# Altium footprint library L33.PcbLib: 19 footprints (part 1 of 2)
Each footprint in its own frame and in the unit in brackets; x right, y up, seen from the top. Pads: shape width x height; smd on the part's side, far side on the other; paste and mask are expansions set on the pad; w line width, h text height; cw(c..) or ccw(c..) is an arc to the next point about the centre after c.
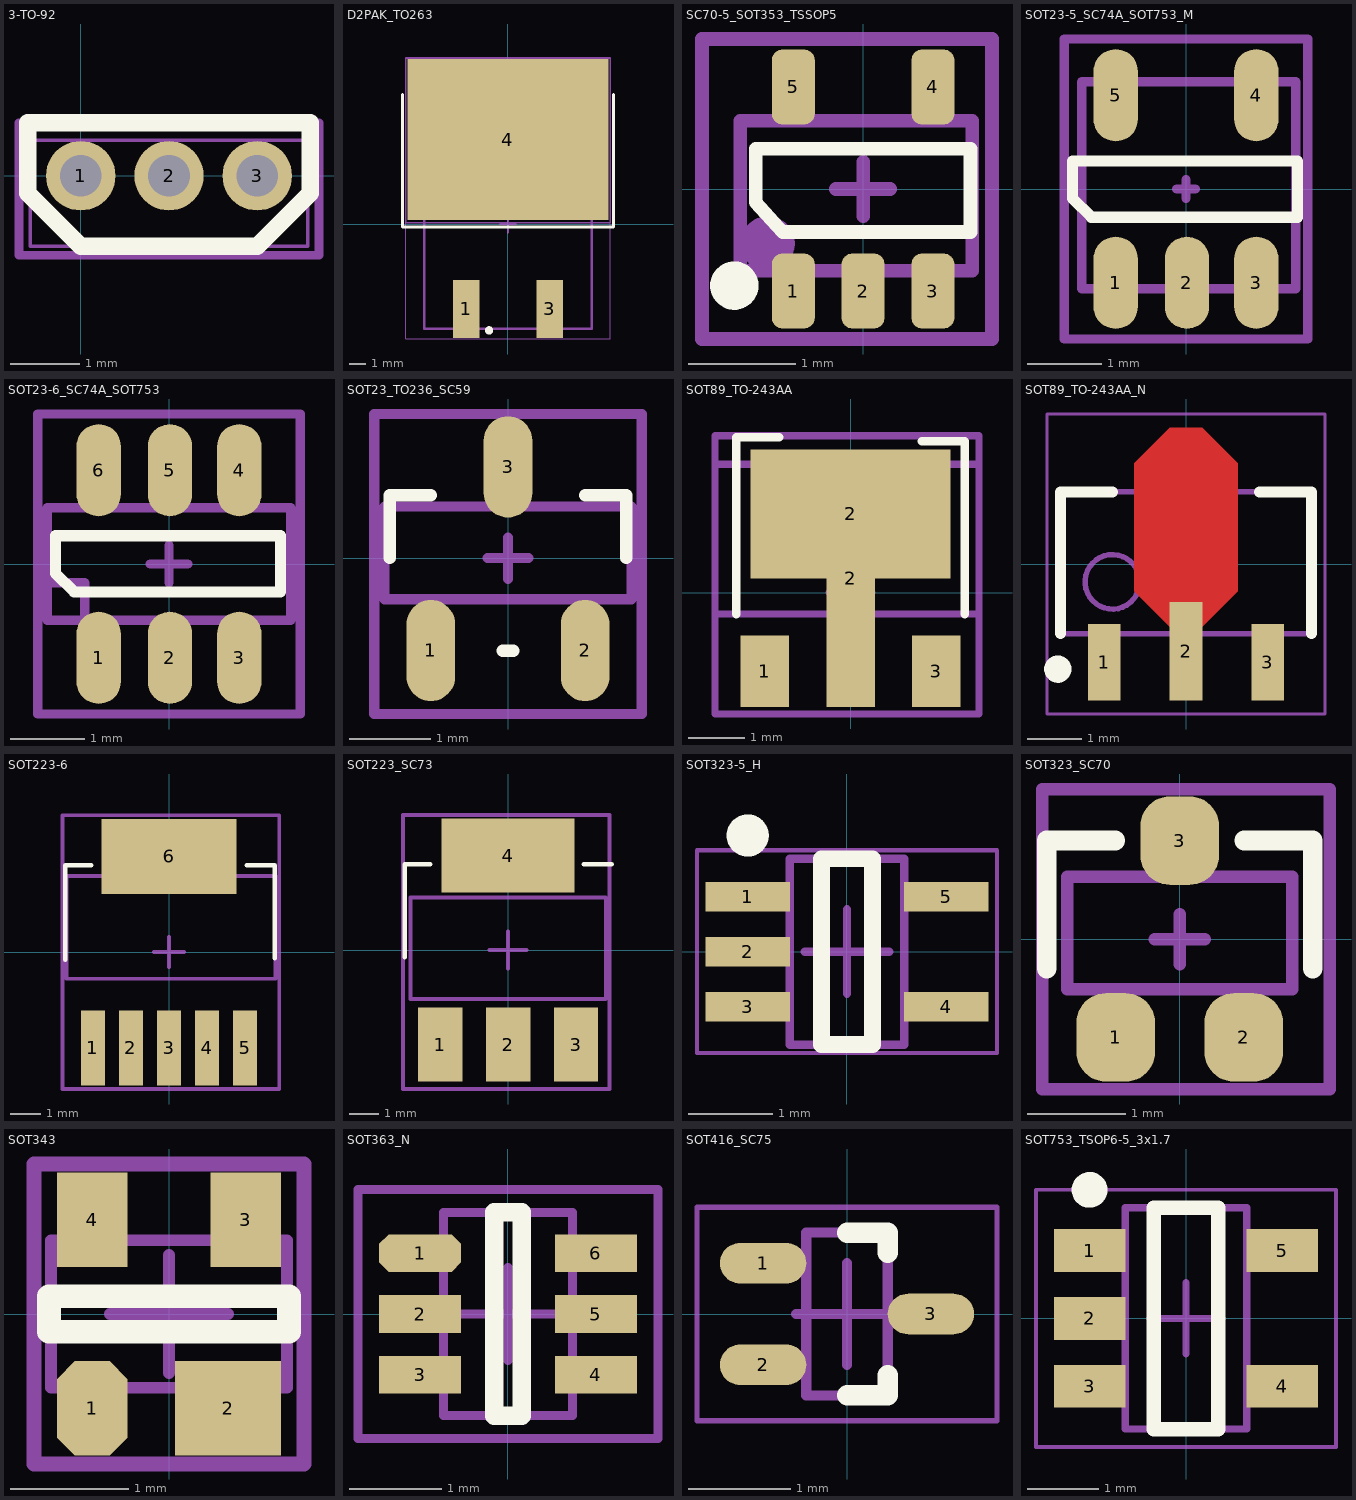
[diagram p0: the footprints below, top view; thin cyan lines are the x and y axes]

## 3-TO-92 [mm]
pads (3):
  round 1 hole 0.6: 1(0,0) 2(1.27,0) 3(2.54,0)
Top Overlay:
  lines w0.254: -0.762,-0.254 -0.762,0.762 3.302,0.762 3.302,-0.254 2.54,-1.016 0,-1.016 -0.762,-0.254
Mechanical 13:
  lines w0.051: -0.73,-1.016 3.27,-1.016 3.27,0.508 -0.73,0.508 -0.73,-1.016
Mechanical 15:
  lines w0.127: 1.016,0 1.524,0 ; 1.27,-0.254 1.27,0.254 ; -0.889,-1.143 3.429,-1.143 3.429,0.762 -0.889,0.762 -0.889,-1.143
Mechanical 17:
  text "'.Designator'" at 0.127,-0.762 h0.2
3D body "LPG0003A.stp": height 5.05, standoff -13.4, extent -0.73,-1.016 3.27,0.504
3D body: height 16.55, standoff -1.31, extent 2.159,1.143 2.159,1.143

## D2PAK_TO263 [mm] "D2PAK footrpint from ST"
height 4.6
pads (3):
  rect 1.6x3.5 smd: 1(-2.54,-5.138) 3(2.54,-5.138)
  rect 12.2x9.75 smd: 4(0,5.138)
Top Overlay:
  circle w0.25: c-1.15,-6.438 r0.125
  lines w0.2: -6.4,-0.163 6.4,-0.163 6.4,7.862 ; -6.4,-0.112 -6.4,7.862
Mechanical 13:
  lines w0.1: -6.2,0.088 6.2,0.088 6.2,10.087 -6.2,10.087 -6.2,0.088
  lines w0.127: -5.08,-6.341 -5.08,8.923 5.08,8.923 5.08,-6.341 -5.08,-6.341
Mechanical 15:
  lines w0.05: -6.2,-6.963 6.2,-6.963 6.2,10.087 -6.2,10.087 -6.2,-6.963
  lines w0.1: -0.5,0 0.5,0 ; 0,-0.5 0,0.5
Mechanical 17:
  text "'.Designator'" at -4.826,-2.54 h0.51
Mechanical 19:
  text "'.Comment'" at -4.826,-2.54 h0.51
3D body "User Library-DPAK.step": height 4.98, standoff -0.03, extent -5.08,-6.341 5.08,8.923

## SC70-5_SOT353_TSSOP5 [mm]
pads (5):
  rrect50% 0.4x0.7 smd: 1(-0.65,-0.95) 2(0,-0.95) 3(0.65,-0.95) 4(0.65,0.95) 5(-0.65,0.95)
Top Overlay:
  circle w0.25: c-1.2,-0.9 r0.1
  lines w0.127: -1,-0.125 -0.75,-0.4 1,-0.4 1,0.375 -1,0.375 -1,-0.125
Mechanical 2:
  circle w0.254: c-0.889,-0.508 r0.127
  lines w0.127: -1.143,-0.762 1.016,-0.762 1.016,0.635 -1.143,0.635 -1.143,-0.762
Mechanical 6:
  lines w0.127: -0.254,0 0.254,0 ; 0,-0.254 0,0.254 ; -1.5,-1.397 1.2,-1.397 1.2,1.397 -1.5,1.397 -1.5,-1.397
3D body "User Library-sot353.step": height 1, standoff 0, extent -1.065,-1.16 1.035,1.14

## SOT23-5_SC74A_SOT753_M [mm]
pads (5):
  oval 0.6x1.25 smd: 1(-0.953,-1.27) 2(0.013,-1.27) 3(0.953,-1.27) 4(0.953,1.27) 5(-0.953,1.27)
Top Overlay:
  lines w0.152: -1.537,-0.127 -1.283,-0.381 1.511,-0.381 1.511,0.381 -1.537,0.381 -1.537,-0.127
Mechanical 2:
  lines w0.127: -1.412,-1.349 1.488,-1.349 1.488,1.451 -1.412,1.451 -1.412,-1.349
Mechanical 6:
  lines w0.127: -0.127,0 0.127,0 ; 0,-0.127 0,0.127 ; -1.651,-2.032 -1.651,2.032 1.651,2.032 1.651,-2.032 -1.651,-2.032
3D body "User Library-SOT23-5-2.step": height 1.45, standoff 0, extent -1.412,-1.349 1.488,1.451

## SOT23-6_SC74A_SOT753 [mm]
pads (6):
  oval 0.6x1.25 smd: 1(-0.953,-1.27) 2(0.013,-1.27) 3(0.953,-1.27) 4(0.953,1.27) 5(0.013,1.27) 6(-0.953,1.27)
Top Overlay:
  lines w0.152: -1.537,-0.127 -1.283,-0.381 1.511,-0.381 1.511,0.381 -1.537,0.381 -1.537,-0.127
Mechanical 2:
  lines w0.127: -1.651,-0.127 -1.651,-0.762 ; -1.143,-0.762 -1.143,-0.254 -1.27,-0.254 -1.651,-0.254 -1.651,-0.762 ; -1.651,-0.762 1.651,-0.762 1.651,0.762 -1.651,0.762 -1.651,-0.762
Mechanical 4:
  lines w0.127: -1.778,0.254 -1.778,2.032 ; -0.254,0 0.254,0 ; 0,-0.254 0,0.254 ; -1.778,2.032 1.778,2.032 1.778,-2.032 -1.778,-2.032 -1.778,2.032
3D body "TSOT23-6.STEP": height 1, standoff 0, extent -1.45,-1.4 1.45,1.4

## SOT23_TO236_SC59 [mm]
pads (3):
  oval 0.6x1.25 smd: 1(-0.952,-1.141) 2(0.953,-1.141) 3(0,1.125)
Top Overlay:
  lines w0.152: -1.46,0 -1.46,0.775 -0.952,0.775 ; -0.063,-1.143 0.064,-1.143 ; 0.953,0.775 1.461,0.775 1.461,0
Mechanical 2:
  lines w0.127: -1.524,-0.508 -1.524,0.635 1.524,0.635 1.524,-0.508 -1.524,-0.508
Mechanical 4:
  lines w0.127: -0.254,0 0.254,0 ; 0,-0.254 0,0.254 ; -1.651,-1.925 -1.651,1.778 1.651,1.778 1.651,-1.925 -1.651,-1.925
3D body "SOT23-3.STEP": height 1.29, standoff -0.01, extent -1.45,-1.4 1.45,1.4

## SOT89_TO-243AA [mil]
pads (4):
  rect 34x50 smd: 1(-60,-55.12) 3(60,-55.12)
  rect 34x180 smd: 2(0,9.88)
  rect 140x90.55 smd: 2(0.04,55.12)
Top Overlay:
  lines w6: -80,-15.12 -80,108.88 -50,108.88 ; 50,105.88 80,105.88 80,-15.12
Mechanical 13:
  lines w5: -95,-15.12 -95,89.88 90,89.88 90,-15.12 -95,-15.12
Mechanical 15:
  lines w5: -15,0 15,0 ; 0,-15 0,15 ; -95,-85.12 90,-85.12 90,109.88 -95,109.88 -95,-85.12
Mechanical 17:
  text "'.Designator'" at -85,-80 h15.75
Mechanical 19:
  text "'.Comment'" at -80,-75 h15.75
3D body "SOT89-3.STEP": height 66.54, standoff 0, extent -93.52,-73.7 91.51,101.49

## SOT89_TO-243AA_N [mm] "SOT89, 3-Leads, Body 4,50x2,45mm, Pitch 1,50mm, Lead Span 4,1mm, IPC Medium Density"
height 1.6
pads (3):
  rect 0.6x1.4 smd: 1(-1.5,-1.8) 3(1.5,-1.8)
  rect 0.6x1.8 smd: 2(0,-1.6)
Top Layer:
  region: -0.228,-1.219 -0.95,-0.498 -0.95,1.85 -0.3,2.5 0.3,2.5 0.95,1.85 0.95,-0.498 0.229,-1.219
Top Overlay:
  circle w0.25: c-2.35,-1.928 r0.125
  lines w0.2: -2.3,-1.278 -2.3,1.322 -1.35,1.322 ; 1.35,1.322 2.3,1.322 2.3,-1.278
Mechanical 13:
  circle w0.1: c-1.35,-0.327 r0.5
  lines w0.1: -2.3,-1.278 2.3,-1.278 2.3,1.322 -2.3,1.322 -2.3,-1.278
Mechanical 15:
  lines w0.05: -2.55,-2.75 2.55,-2.75 2.55,2.75 -2.55,2.75 -2.55,-2.75
  lines w0.1: -0.5,0.023 0.5,0.022 ; 0,-0.477 0,0.523
Mechanical 17:
  text "'.Designator'" at -0.508,-0.254 h0.64
Mechanical 19:
  text "'.Comment'" at -0.508,-0.254 h0.64
3D body: height 0.25, standoff -66.91, extent -1.778,3.048 -1.778,3.048
3D body "User Library-SOT89-3.STEP": height 1.59, standoff 0.05, extent -2.25,-2.25 2.25,2

## SOT223-6 [mm]
pads (6):
  rect 0.8x2.5 smd: 1(-2.54,-3.2) 2(-1.27,-3.2) 3(0,-3.2) 4(1.27,-3.2) 5(2.54,-3.2)
  rect 4.5x2.5 smd: 6(0,3.2)
Top Overlay:
  lines w0.152: -3.465,-0.25 -3.465,2.9 -2.601,2.9 ; 2.595,2.9 3.535,2.9 ; 3.535,-0.2 3.535,2.873
Mechanical 13:
  lines w0.127: -3.429,-0.889 -3.429,2.54 3.556,2.54 3.556,-0.889 -3.429,-0.889
Mechanical 15:
  lines w0.127: -0.508,0 0.508,0 ; 0,-0.508 0,0.508 ; -3.556,-4.572 -3.556,4.572 -3.429,4.572 3.683,4.572 3.683,-4.572 -3.556,-4.572
Mechanical 17:
  text "'.Designator'" at -3.175,0.381 h0.64
Mechanical 19:
  text "'.Comment'" at -3.175,0.381 h0.64
3D body "User Library-SOT-223-6.step": height 1.8, standoff 0, extent -3.275,-2.791 3.275,4.469

## SOT223_SC73 [mm]
pads (4):
  rect 1.5x2.5 smd: 1(-2.3,-3.2) 2(0,-3.2) 3(2.3,-3.2)
  rect 4.5x2.5 smd: 4(0,3.2)
Top Overlay:
  lines w0.152: -3.5,-0.25 -3.5,2.9 -2.636,2.9 ; 2.56,2.9 3.5,2.9
Mechanical 13:
  lines w0.127: -3.302,-1.651 -3.302,1.778 3.302,1.778 3.302,-1.651 -3.302,-1.651
Mechanical 15:
  lines w0.127: -0.635,0 0.635,0 ; 0,-0.635 0,0.635 ; -3.556,-4.699 -3.556,4.572 3.429,4.572 3.429,-4.699 -3.556,-4.699
Mechanical 17:
  text "'.Designator'" at -2.921,-0.127 h0.64
Mechanical 19:
  text "'.Comment'" at -2.921,-0.127 h0.64
3D body "SOT223-4.STEP": height 1.8, standoff 0, extent -3.364,-3.548 3.336,3.752

## SOT323-5_H [mm] "SOT23, 5-Leads, Body 2,00x2,90mm, Pitch 0,65mm, IPC High Density"
height 1.1
pads (5):
  rect 1x0.35 smd: 1(-1.175,0.65) 2(-1.175,0) 3(-1.175,-0.65) 4(1.175,-0.65) 5(1.175,0.65)
Top Overlay:
  circle w0.25: c-1.175,1.375 r0.125
  lines w0.2: -0.3,-1.1 -0.3,1.1 0.3,1.1 0.3,-1.1 -0.3,-1.1
Mechanical 13:
  lines w0.1: -0.675,-1.1 0.675,-1.1 0.675,1.1 -0.675,1.1 -0.675,-1.1
Mechanical 15:
  lines w0.05: -1.775,-1.2 1.775,-1.2 1.775,1.2 -1.775,1.2 -1.775,-1.2
  lines w0.1: -0.5,0 0.5,0 ; 0,-0.5 0,0.5
Mechanical 17:
  text "'.Designator'" at -0.381,1.016 h0.76
Mechanical 19:
3D body: height 0.25, standoff 0, extent -0.635,1.016 -0.635,1.016
3D body: height 0.25, standoff 0, extent 0,0 0,0
3D body "User Library-SOT-323-5L.step": height 1, standoff 0, extent -1.051,-1.05 1.051,1.05

## SOT323_SC70 [mm]
pads (3):
  rrect75% 0.8x0.9 smd: 1(-0.65,-1) 2(0.65,-1) 3(0,1)
Top Overlay:
  lines w0.2: -1.35,-0.3 -1.35,1 -0.657,1 ; 0.657,1 1.35,1 1.35,-0.3
Mechanical 2:
  lines w0.127: -1.143,-0.508 -1.143,0.635 1.143,0.635 1.143,-0.508 -1.143,-0.508
Mechanical 4:
  lines w0.127: -0.254,0 0.254,0 ; 0,-0.254 0,0.254 ; -1.397,-1.524 -1.397,1.524 -1.143,1.524 1.524,1.524 1.524,-1.524 -1.397,-1.524
3D body "User Library-SOT323 (SC70-3)-1.STEP": height 1.1, standoff 0, extent -1.115,-1.106 1.085,1.139

## SOT343 [mm]
pads (4):
  oct 0.6x0.8 smd: 1(-0.65,-0.8)
  rect 0.9x0.8 smd: 2(0.5,-0.8)
  rect 0.6x0.8 smd: 3(0.65,0.8) 4(-0.65,0.8)
Top Overlay:
  lines w0.2: -1.016,-0.15 -1.016,0.15 1.016,0.15 1.016,-0.15 -1.016,-0.15
Mechanical 13:
  lines w0.1: -1,-0.625 -1,0.625 1,0.625 1,-0.625 -1,-0.625
Mechanical 15:
  lines w0.1: -0.5,0 0.5,0 ; 0,-0.5 0,0.5
  lines w0.127: -1.143,-1.27 1.143,-1.27 1.143,1.27 -1.143,1.27 -1.143,-1.27
Mechanical 17:
  text "'.Designator'" at -1.27,-0.254 h0.51
Mechanical 19:
  text "'.Comment'" at -1.27,-0.254 h0.51
3D body "User Library-sot343.step": height 1, standoff 0, extent -1.05,-1.15 1.05,1.15

## SOT363_N [mil]
pads (6):
  oct 35x16 smd: 1(-37.5,26)
  rect 35x16 smd: 2(-37.5,0) 3(-37.5,-26) 4(37.5,-26) 5(37.5,0) 6(37.5,26)
Top Overlay:
  lines w7.87: -5.91,-43.31 -5.91,43.31 5.91,43.31 5.91,-43.31 -5.91,-43.31
Mechanical 2:
  lines w3.94: -27.56,-43.31 -27.56,43.31 27.56,43.31 27.56,-43.31 -27.56,-43.31
Mechanical 4:
  lines w3.94: -19.68,0 19.69,0 ; 0,-19.68 0,19.69 ; -63.98,-53.15 -63.98,53.15 63.98,53.15 63.98,-53.15 -63.98,-53.15
3D body "User Library-SOT363-2.step": height 43.31, standoff 0, extent -47.24,-43.3 47.25,43.31

## SOT416_SC75 [mm] "SOT23, 3-Leads, Body 1,60x1,65mm, Pitch 0,50mm, IPC Medium Density"
height 0.8
pads (3):
  oval 0.85x0.4 smd mask+0.05: 1(-0.825,0.5) 2(-0.825,-0.5) 3(0.825,0)
Top Overlay:
  lines w0.2: 0,-0.8 0.4,-0.8 0.4,-0.6 ; 0,0.8 0.4,0.8 0.4,0.6
Mechanical 14:
  lines w0.1: -0.4,-0.8 0.4,-0.8 0.4,0.8 -0.4,0.8 -0.4,-0.8
Mechanical 15:
  lines w0.05: -1.475,-1.05 1.475,-1.05 1.475,1.05 -1.475,1.05 -1.475,-1.05
  lines w0.1: -0.5,0 0.5,0 ; 0,-0.5 0,0.5
Mechanical 17:
  text "'.Designator'" at -0.254,0.762 h0.13
3D body "mos.STEP": height 0.8, standoff -0.02, extent -0.95,-0.8 0.95,0.8

## SOT753_TSOP6-5_3x1.7 [mm] "SOT23, 5-Leads, Body 2,95x2,75mm, Pitch 0,95mm, IPC Medium Density"
height 1.1
pads (5):
  rect 1x0.6 smd: 1(-1.35,0.95) 2(-1.35,0) 3(-1.35,-0.95) 4(1.35,-0.95) 5(1.35,0.95)
Top Overlay:
  circle w0.25: c-1.35,1.8 r0.125
  lines w0.2: -0.45,-1.55 0.45,-1.55 0.45,1.55 -0.45,1.55 -0.45,-1.55
Mechanical 13:
  lines w0.1: -0.85,-1.55 -0.85,1.55 0.85,1.55 0.85,-1.55 -0.85,-1.55
Mechanical 15:
  lines w0.05: -2.1,-1.8 -2.1,1.8 2.1,1.8 2.1,-1.8 -2.1,-1.8
  lines w0.1: -0.5,0 0.5,0 ; 0,-0.5 0,0.5
Mechanical 17:
  text "'.Designator'" at -0.152,3.635 h0.64
Mechanical 19:
  text "'.Comment'" at -0.152,3.635 h0.64
3D body "User Library-SOT753.step": height 1.1, standoff 0, extent -1.5,-1.55 1.5,1.55